# EAGLE library part LT1963AEQ* (library EW_voltage_regulators)
LT1963 1.5A, Low Noise, Fast Transient Response LDO Regulator Source: http://www.linear.com
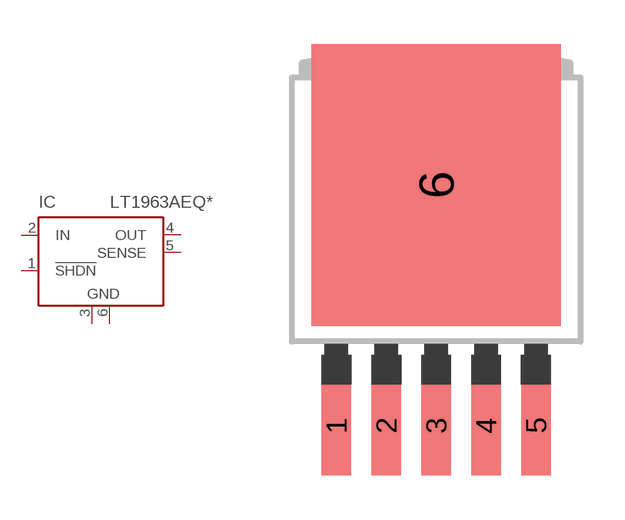
[diagram p16: symbol with the pads of Q5-DD; footprint Q5-DD]

Designator prefix IC

## LT1963AEQ (MPN: LT1963AEQ; OC_FARNELL: 1273625; OC_NEWARK: 57M7427), LT1963AEQ-1.5 (MPN: LT1963AEQ-1.5; OC_FARNELL: unknown; OC_NEWARK: 57M7428), LT1963AEQ-1.8 (MPN: LT1963AEQ-1.8; OC_FARNELL: 1663522; OC_NEWARK: 57M7432), LT1963AEQ-2.5 (MPN: LT1963AEQ-2.5; OC_FARNELL: 1500530; OC_NEWARK: 53K8985), LT1963AEQ-3.3 (MPN: LT1963AEQ-3.3; OC_FARNELL: 1273626; OC_NEWARK: 57M7439)  [Q5-DD]
1  !SHDN  in
2  IN  in
3  GND  pwr
4  OUT  pas
5  SENSE  in
6  GND  pwr

## Footprint Q5-DD (pad centres in mm)
Q5-DD
smd 1 x 3.4: 1 -3.4,-7.875; 2 -1.7,-7.875; 3 0,-7.875; 4 1.7,-7.875; 5 3.4,-7.875
smd 8.5 x 9.6: 6 0,0.325